# Altium schematic symbol library MCP9700T-E_TT.SchLib: 1 symbol
Pins are listed as number, name and electrical type; pins without a type are passive.

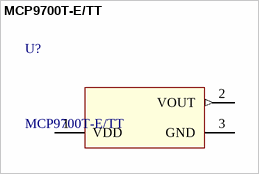
[diagram p0: symbol MCP9700T-E/TT]

## MCP9700T-E/TT
designator U?
MCP9700 Series 5 V -40 to +125Â°C Low-Power Linear Active Thermistor; MF: Microchip; SnapEDA_Link: https://www.snapeda.com/parts/MCP9700T-E/TT/Microchip/view-part/?ref=snap; Price: None; Package: SOT-23-3 Microchip; MP: MCP9700T-E/TT; Availability: Unavailable; Value: *
footprint SOT95P237X112-3N
pins: 1 VDD (power), 2 VOUT (out), 3 GND (power)